# Altium footprint library Bourns.PcbLib: 2 footprints
Each footprint in its own frame and in the unit in brackets; x right, y up, seen from the top. Pads: shape width x height; smd on the part's side, far side on the other; paste and mask are expansions set on the pad; w line width, h text height; cw(c..) or ccw(c..) is an arc to the next point about the centre after c.
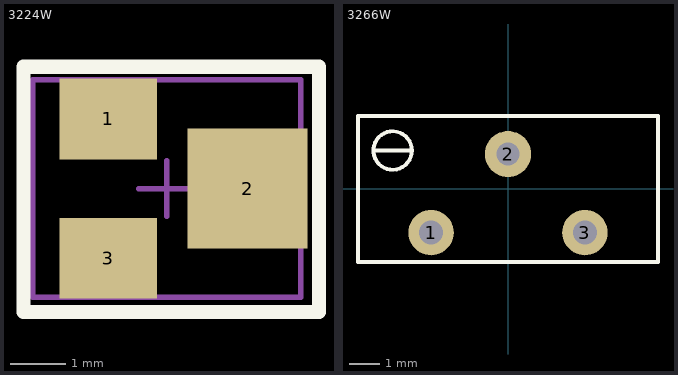
[diagram p0: the footprints below, top view; thin cyan lines are the x and y axes]

## 3224W [mm]
pads (3):
  rect 1.75x1.45 smd: 1(2.619,5.065) 3(2.619,2.565)
  rect 2.15x2.15 smd: 2(5.119,3.815)
Top Overlay:
  lines w0.254: 1.1,1.6 6.4,1.6 6.4,6 1.1,6 1.1,1.6
Mechanical 13:
  lines w0.1: 1.269,1.865 1.269,5.765 6.069,5.765 6.069,1.865 1.269,1.865
Mechanical 15:
  lines w0.05: 1.019,1.615 1.019,6.015 6.319,6.015 6.319,1.615 1.019,1.615
  lines w0.1: 3.169,3.815 4.169,3.815 ; 3.669,3.315 3.669,4.315
3D body "3224Wn.step": height 5.1, standoff 0, extent 1.269,1.865 6.119,5.765

## 3266W [mm]
pads (3):
  round 1.5 hole 0.8: 1(-2.54,-1.44) 3(2.54,-1.44)
  round 1.524 hole 0.762: 2(0,1.153)
Top Overlay:
  circle w0.127: c-3.81,1.27 r0.635
  lines w0.127: -4.445,1.27 -3.175,1.27 ; -4.953,-2.413 -4.953,2.413 4.953,2.413 4.953,-2.413 -4.953,-2.413
3D body "Rp-3296W.STEP": height 11.55, standoff -2.5, extent -4.765,-2.41 4.765,2.421